# EAGLE library part RTCC-BQ32000 (library eagleLib v2)
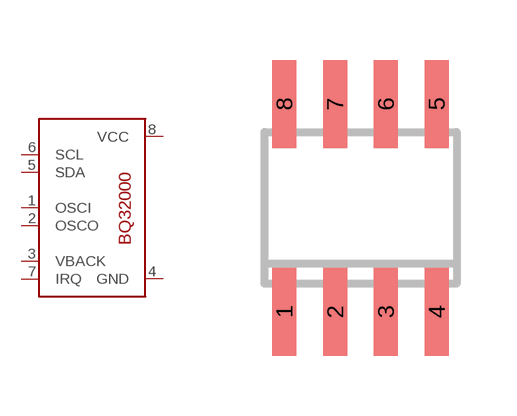
[diagram p13: symbol with the pads of SO08; footprint SO08]

Designator prefix -

## RTCC-BQ32000-S  [SO08]
1  OSCI
2  OSCO
3  VBACK
4  GND
5  SDA
6  SCL
7  IRQ
8  VCC

## Footprint SO08 (pad centres in mm)
SMALL OUTLINE INTEGRATED CIRCUIT body 3.9 mm/JEDEC MS-012AA
smd 0.6 x 2.2: 1 -1.905,-2.6; 2 -0.635,-2.6; 3 0.635,-2.6; 4 1.905,-2.6; 5 1.905,2.6; 6 0.635,2.6; 7 -0.635,2.6; 8 -1.905,2.6